# Altium footprint library Crystal Oscillator.PcbLib: 26 footprints (part 1 of 2)
Each footprint in its own frame and in the unit in brackets; x right, y up, seen from the top. Pads: shape width x height; smd on the part's side, far side on the other; paste and mask are expansions set on the pad; w line width, h text height; cw(c..) or ccw(c..) is an arc to the next point about the centre after c.
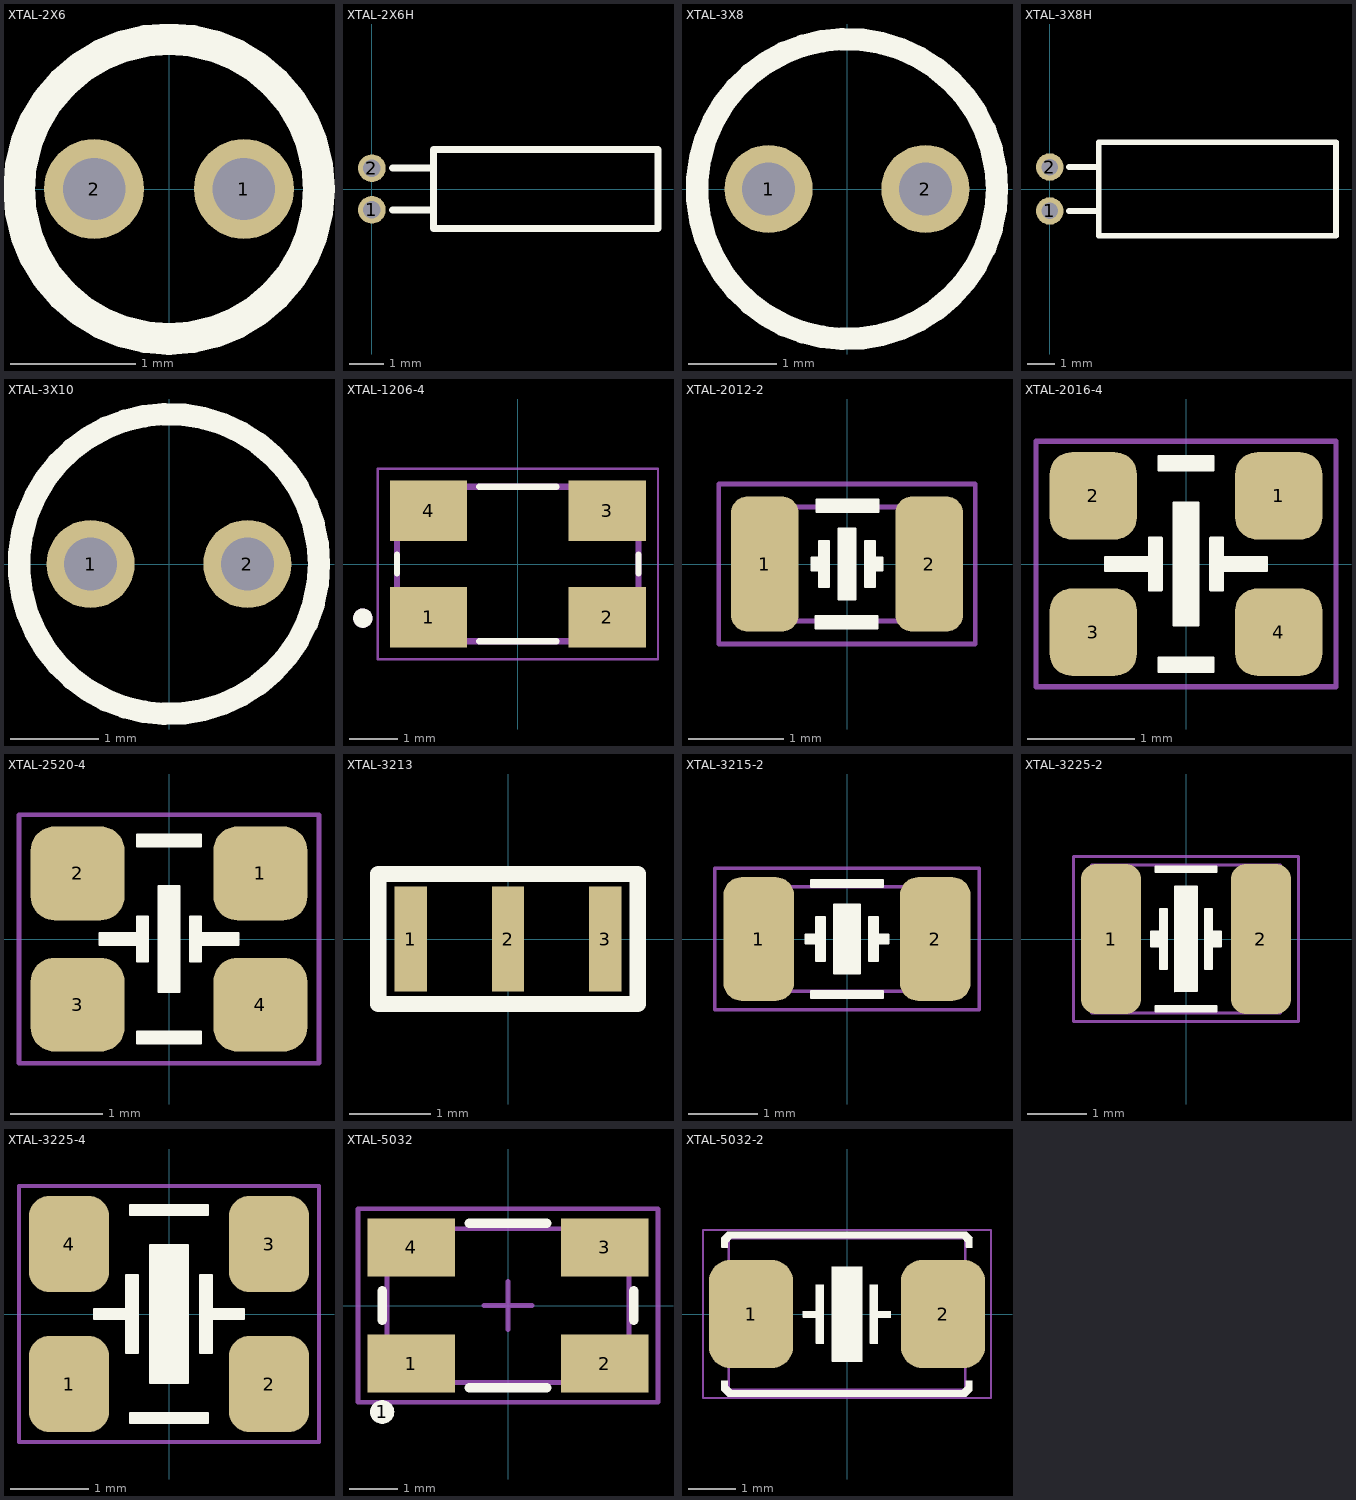
[diagram p0: the footprints below, top view; thin cyan lines are the x and y axes]

## XTAL-2X6 [mm]
pads (2):
  round 0.8 hole 0.5: 1(0.6,0) 2(-0.6,0)
Top Overlay:
  circle w0.254: c0,0 r1.2
3D body "2x6.STEP": height 6.4, standoff -4.9, extent -1.05,-1.05 1.05,1.05

## XTAL-2X6H [mm]
pads (2):
  round 0.8 hole 0.5: 1(0,-0.6) 2(0,0.6)
Top Overlay:
  lines w0.203: 0.6,-0.6 1.778,-0.6 ; 0.6,0.6 1.778,0.6 ; 1.778,-1.143 1.778,1.143 8.255,1.143 8.255,-1.143 1.778,-1.143
3D body "2x6H.STEP": height 1.9, standoff -2.15, extent -0.18,-1.075 8.18,1.025

## XTAL-3X8 [mm]
pads (2):
  round 1 hole 0.6: 1(-0.889,0) 2(0.889,0)
Top Overlay:
  circle w0.254: c0,0 r1.7
3D body "3x8.STEP": height 8.4, standoff -4.9, extent -1.5,-1.5 1.5,1.5

## XTAL-3X8H [mm]
pads (2):
  round 1 hole 0.6: 1(0,-0.8) 2(0,0.8)
Top Overlay:
  lines w0.203: 0.7,-0.8 1.778,-0.8 ; 0.7,0.8 1.778,0.8 ; 1.778,-1.7 1.778,1.7 10.414,1.7 10.414,-1.7 1.778,-1.7
3D body "3x6h.STEP": height 2.9, standoff -3.1, extent -0.18,-1.5 10.18,1.5

## XTAL-3X10 [mm]
pads (2):
  round 1 hole 0.6: 1(-0.889,0) 2(0.889,0)
Top Overlay:
  circle w0.254: c0,0 r1.7
3D body "3x10.STEP": height 10.2, standoff -4.9, extent -1.5,-1.5 1.5,1.5

## XTAL-1206-4 [mm]
pads (4):
  rect 1.6x1.25 smd: 1(-1.85,-1.1) 2(1.85,-1.1) 3(1.85,1.1) 4(-1.85,1.1)
Top Overlay:
  circle w0.2: c-3.21,-1.12 r0.1
  lines w0.127: -2.5,-0.2 -2.5,0.2 ; -0.8,-1.6 0.8,-1.6 ; -0.8,1.6 0.8,1.6 ; 2.5,-0.2 2.5,0.2
Mechanical 13:
  circle w0.2: c-3.21,-1.12 r0.1
  lines w0.127: -2.5,-1.6 2.5,-1.6 2.5,1.6 -2.5,1.6 -2.5,-1.6
Mechanical 15:
  lines w0.05: -2.9,-1.975 2.9,-1.975 2.9,1.975 -2.9,1.975 -2.9,-1.975
3D body "ECS-300-18-30BQ-DS-TR.STEP": height 0.85, standoff 0, extent -2.5,-1.6 2.5,1.6

## XTAL-2012-2 [mil]
height 25.59
pads (2):
  rrect50% 28x56 smd: 1(-34,0) 2(34,0)
Top Overlay:
  region: 12.5,-26.5 -13,-26.5 -13,-21.5 12.5,-21.5
  region: 11.5,-9.5 7.5,-9.5 7.5,9.5 11.5,9.5 11.5,2.5 14.5,2.5 14.5,-2.5 11.5,-2.5
  region: -3.5,14.5 3.5,14.5 3.5,-14.5 -3.5,-14.5
  region: -11.5,9.5 -7.5,9.5 -7.5,-9.5 -11.5,-9.5 -11.5,-2.5 -14.5,-2.5 -14.5,2.5 -11.5,2.5
  region: -12.5,26.5 13,26.5 13,21.5 -12.5,21.5
  lines w1: -14.5,-2.5 -14.5,2.5 -11.5,2.5 -11.5,9.5 -7.5,9.5 -7.5,-9.5 -11.5,-9.5 -11.5,-2.5 -14.5,-2.5 ; -13,-26.5 12.5,-26.5 12.5,-21.5 -13,-21.5 -13,-26.5 ; -12.5,21.5 13,21.5 13,26.5 -12.5,26.5 -12.5,21.5 ; -3.5,-14.5 3.5,-14.5 3.5,14.5 -3.5,14.5 -3.5,-14.5 ; 7.5,-9.5 7.5,9.5 11.5,9.5 11.5,2.5 14.5,2.5 14.5,-2.5 11.5,-2.5 11.5,-9.5 7.5,-9.5
Mechanical 13:
  lines w2: -39.37,-23.62 39.37,-23.62 39.37,23.62 -39.37,23.62 -39.37,-23.62
Mechanical 14:
  lines w2: -53,-33 53,-33 53,33 -53,33 -53,-33
  text ".Designator" at -35,-20 h80
3D body "User Library-NT2016SA-END4910A-48MHZ Crystal (NDK).STEP": height 27.56, standoff -0.04, extent -39.37,-31.5 39.37,31.5

## XTAL-2016-4 [mil]
height 29.53
pads (4):
  rrect50% 32x32 smd: 1(34,25) 2(-34,25) 3(-34,-25) 4(34,-25)
Top Overlay:
  region: -10,39.5 10,39.5 10,34.5 -10,34.5
  region: -29.5,2.5 -13.5,2.5 -13.5,9.5 -9,9.5 -9,-9.5 -13.5,-9.5 -13.5,-2.5 -29.5,-2.5
  region: -4.5,22.5 4.5,22.5 4.5,-22.5 -4.5,-22.5
  region: 9,9.5 13.5,9.5 13.5,2.5 29.5,2.5 29.5,-2.5 13.5,-2.5 13.5,-9.5 9,-9.5
  region: -10,-34.5 10,-34.5 10,-39.5 -10,-39.5
  lines w1: -29.5,-2.5 -13.5,-2.5 -13.5,-9.5 -9,-9.5 -9,9.5 -13.5,9.5 -13.5,2.5 -29.5,2.5 -29.5,-2.5 ; -10,-39.5 10,-39.5 10,-34.5 -10,-34.5 -10,-39.5 ; -10,34.5 -10,39.5 10,39.5 10,34.5 -10,34.5 ; -4.5,-22.5 4.5,-22.5 4.5,22.5 -4.5,22.5 -4.5,-22.5 ; 9,-9.5 9,9.5 13.5,9.5 13.5,2.5 29.5,2.5 29.5,-2.5 13.5,-2.5 13.5,-9.5 9,-9.5
Mechanical 14:
  lines w2: -55,-45 55,-45 55,45 -55,45 -55,-45
  text ".Designator" at -35,-20 h80
3D body "User Library-NT2016SA-END4910A-48MHZ Crystal (NDK).STEP": height 27.56, standoff -0.04, extent -39.37,-31.5 39.37,31.5

## XTAL-2520-4 [mil]
height 29.53
pads (4):
  rrect50% 40x40 smd: 1(39,28) 2(-39,28) 3(-39,-28) 4(39,-28)
Top Overlay:
  region: 9,9.5 13.5,9.5 13.5,2.5 29.5,2.5 29.5,-2.5 13.5,-2.5 13.5,-9.5 9,-9.5
  region: -4.5,22.5 4.5,22.5 4.5,-22.5 -4.5,-22.5
  region: -29.5,2.5 -13.5,2.5 -13.5,9.5 -9,9.5 -9,-9.5 -13.5,-9.5 -13.5,-2.5 -29.5,-2.5
  region: -13.5,-39.5 13.5,-39.5 13.5,-44.5 -13.5,-44.5
  region: -13.5,44.5 13.5,44.5 13.5,39.5 -13.5,39.5
  lines w1: -29.5,-2.5 -29.5,2.5 -13.5,2.5 -13.5,9.5 -9,9.5 -9,-9.5 -13.5,-9.5 -13.5,-2.5 -29.5,-2.5 ; -13.5,-44.5 -13.5,-39.5 13.5,-39.5 13.5,-44.5 -13.5,-44.5 ; -13.5,39.5 13.5,39.5 13.5,44.5 -13.5,44.5 -13.5,39.5 ; -4.5,-22.5 -4.5,22.5 4.5,22.5 4.5,-22.5 -4.5,-22.5 ; 9,-9.5 13.5,-9.5 13.5,-2.5 29.5,-2.5 29.5,2.5 13.5,2.5 13.5,9.5 9,9.5 9,-9.5
Mechanical 14:
  lines w2: -64,-53 -64,53 64,53 64,-53 -64,-53
  text ".Designator" at -35,-20 h80
3D body "User Library-Osc KC2520.STEP": height 31.1, standoff 0, extent -49.21,-39.36 49.22,39.37

## XTAL-3213 [mm]
pads (3):
  rect 0.4x1.3 smd: 1(-1.2,0) 2(0,0) 3(1.2,0)
Top Overlay:
  lines w0.2: -1.6,-0.8 1.6,-0.8 1.6,0.8 0,0.8 -1.6,0.8 -1.6,-0.8
3D body "CSTCE16M.STEP": height 1.02, standoff -0.09, extent -1.6,-0.66 1.6,0.64

## XTAL-3215-2 [mil]
height 25.59
pads (2):
  rrect50% 40x70 smd: 1(-50,0) 2(50,0)
Top Overlay:
  region: -20.5,33.5 20.5,33.5 20.5,29.5 -20.5,29.5
  region: -7.5,19.5 7.5,19.5 7.5,-19.5 -7.5,-19.5
  region: -12.5,-12.5 -17.5,-12.5 -17.5,-2.5 -23.5,-2.5 -23.5,2.5 -17.5,2.5 -17.5,12.5 -12.5,12.5
  region: 12.5,12.5 17.5,12.5 17.5,2.5 23.5,2.5 23.5,-2.5 17.5,-2.5 17.5,-12.5 12.5,-12.5
  region: 20.5,-33.5 -20.5,-33.5 -20.5,-29.5 20.5,-29.5
  lines w1: -23.5,-2.5 -17.5,-2.5 -17.5,-12.5 -12.5,-12.5 -12.5,12.5 -17.5,12.5 -17.5,2.5 -23.5,2.5 -23.5,-2.5 ; -20.5,-33.5 -20.5,-29.5 20.5,-29.5 20.5,-33.5 -20.5,-33.5 ; -20.5,29.5 20.5,29.5 20.5,33.5 -20.5,33.5 -20.5,29.5 ; -7.5,-19.5 7.5,-19.5 7.5,19.5 -7.5,19.5 -7.5,-19.5 ; 12.5,-12.5 12.5,12.5 17.5,12.5 17.5,2.5 23.5,2.5 23.5,-2.5 17.5,-2.5 17.5,-12.5 12.5,-12.5
Mechanical 13:
  lines w2: -63,-29.51 -63,29.53 62.99,29.53 62.99,-29.51 -63,-29.51
Mechanical 14:
  lines w2: -75,-40 -75,40 75,40 75,-40 -75,-40
  text ".Designator" at -35,-20 h80
3D body "User Library-ECX-31B.STEP": height 35.43, standoff 0, extent -63,-29.51 62.99,29.55

## XTAL-3225-2 [mil]
height 25.59
pads (2):
  rrect50% 40x100 smd: 1(-50,0) 2(50,0)
Top Overlay:
  region: 20.5,-48.5 -20.5,-48.5 -20.5,-44.5 20.5,-44.5
  region: 12.5,20 17.5,20 17.5,5 23.5,5 23.5,-5 17.5,-5 17.5,-20 12.5,-20
  region: -12.5,-20 -17.5,-20 -17.5,-5 -23.5,-5 -23.5,5 -17.5,5 -17.5,20 -12.5,20
  region: -7.5,35 7.5,35 7.5,-35 -7.5,-35
  region: -20.5,48.5 20.5,48.5 20.5,44.5 -20.5,44.5
  lines w1: -23.5,-5 -17.5,-5 -17.5,-20 -12.5,-20 -12.5,20 -17.5,20 -17.5,5 -23.5,5 -23.5,-5 ; -20.5,-48.5 20.5,-48.5 20.5,-44.5 -20.5,-44.5 -20.5,-48.5 ; -20.5,44.5 -20.5,48.5 20.5,48.5 20.5,44.5 -20.5,44.5 ; -7.5,-35 -7.5,35 7.5,35 7.5,-35 -7.5,-35 ; 12.5,-20 17.5,-20 17.5,-5 23.5,-5 23.5,5 17.5,5 17.5,20 12.5,20 12.5,-20
Mechanical 13:
  lines w2: -63,-49.21 -63,49.21 62.99,49.21 62.99,-49.21 -63,-49.21
Mechanical 14:
  lines w2: -75,-55 -75,55 75,55 75,-55 -75,-55
  text ".Designator" at -35,-20 h80
3D body "User Library-SG310.STEP": height 41.34, standoff 0, extent -62.98,-49.21 63,49.21

## XTAL-3225-4 [mil]
height 47.24
pads (4):
  rrect50% 40x48 smd: 1(-50,-35) 2(50,-35) 3(50,35) 4(-50,35)
Top Overlay:
  region: -19.5,54.5 19.5,54.5 19.5,49.5 -19.5,49.5
  region: -9.5,34.5 9.5,34.5 9.5,-34.5 -9.5,-34.5
  region: -21.5,19.5 -15.5,19.5 -15.5,-19.5 -21.5,-19.5 -21.5,-2.5 -37.5,-2.5 -37.5,2.5 -21.5,2.5
  region: 21.5,-19.5 15.5,-19.5 15.5,19.5 21.5,19.5 21.5,2.5 37.5,2.5 37.5,-2.5 21.5,-2.5
  region: 19.5,-54.5 -19.5,-54.5 -19.5,-49.5 19.5,-49.5
  lines w1: -37.5,-2.5 -21.5,-2.5 -21.5,-19.5 -15.5,-19.5 -15.5,19.5 -21.5,19.5 -21.5,2.5 -37.5,2.5 -37.5,-2.5 ; -19.5,-54.5 19.5,-54.5 19.5,-49.5 -19.5,-49.5 -19.5,-54.5 ; -19.5,49.5 19.5,49.5 19.5,54.5 -19.5,54.5 -19.5,49.5 ; -9.5,-34.5 -9.5,34.5 9.5,34.5 9.5,-34.5 -9.5,-34.5 ; 15.5,-19.5 21.5,-19.5 21.5,-2.5 37.5,-2.5 37.5,2.5 21.5,2.5 21.5,19.5 15.5,19.5 15.5,-19.5
Mechanical 14:
  lines w2: -75,-64 75,-64 75,64 -75,64 -75,-64
  text ".Designator" at -35,-20 h80
3D body "User Library-SG310.STEP": height 41.34, standoff 0, extent -62.98,-49.21 63,49.21

## XTAL-5032 [mm]
pads (6):
  round 0.5 on Top Overlay: 1(-2.6,-2.2)
  rect 1.8x1.2 smd: 1(-2,-1.2) 2(2,-1.2) 3(2,1.2) 4(-2,1.2)
  round 0.5 on Mech1: ""(-2,-1.1)
Top Overlay:
  lines w0.2: -2.6,-0.3 -2.6,0.3 ; -0.8,-1.7 0.8,-1.7 ; -0.8,1.7 0.8,1.7 ; 2.6,-0.3 2.6,0.3
Mechanical 1:
  lines w0.1: -2.5,-1.587 -2.5,1.587 2.5,1.587 2.5,-1.587 -2.5,-1.587
Mechanical 15:
  lines w0.1: -0.5,0 0.5,0 ; 0,-0.5 0,0.5 ; -3.1,-2 -3.1,2 3.1,2 3.1,-2 -3.1,-2
3D body "ABM3B.STEP": height 1.1, standoff -0.01, extent -2.5,-1.587 2.5,1.587

## XTAL-5032-2 [mil]
height 47.24
pads (2):
  rrect50% 70x90 smd: 1(-80,0) 2(80,0)
Top Overlay:
  region: 104.5,-55.5 99.5,-55.5 99.5,-60 96,-63.5 -96,-63.5 -99.5,-60 -99.5,-55.5 -104.5,-55.5 -104.5,-63.5 -99.5,-68.5 99.5,-68.5 104.5,-63.5
  region: -104.5,55.5 -99.5,55.5 -99.5,60 -96,63.5 96,63.5 99.5,60 99.5,55.5 104.5,55.5 104.5,63.5 99.5,68.5 -99.5,68.5 -104.5,63.5
  region: -19.5,24.5 -25.5,24.5 -25.5,2.5 -36.5,2.5 -36.5,-2.5 -25.5,-2.5 -25.5,-24.5 -19.5,-24.5
  region: -12.5,39.5 12.5,39.5 12.5,-39.5 -12.5,-39.5
  region: 19.5,-24.5 25.5,-24.5 25.5,-2.5 36.5,-2.5 36.5,2.5 25.5,2.5 25.5,24.5 19.5,24.5
  lines w1: -104.5,-63.5 -99.5,-68.5 99.5,-68.5 104.5,-63.5 104.5,-55.5 99.5,-55.5 99.5,-60 96,-63.5 -96,-63.5 -99.5,-60 -99.5,-55.5 -104.5,-55.5 -104.5,-63.5 ; -104.5,55.5 -99.5,55.5 -99.5,60 -96,63.5 96,63.5 99.5,60 99.5,55.5 104.5,55.5 104.5,63.5 99.5,68.5 -99.5,68.5 -104.5,63.5 -104.5,55.5 ; -36.5,-2.5 -25.5,-2.5 -25.5,-24.5 -19.5,-24.5 -19.5,24.5 -25.5,24.5 -25.5,2.5 -36.5,2.5 -36.5,-2.5 ; -12.5,-39.5 12.5,-39.5 12.5,39.5 -12.5,39.5 -12.5,-39.5 ; 19.5,-24.5 19.5,24.5 25.5,24.5 25.5,2.5 36.5,2.5 36.5,-2.5 25.5,-2.5 25.5,-24.5 19.5,-24.5
Mechanical 13:
  lines w2: -98.43,-63 -98.43,62.99 98.43,62.99 98.43,-63 98.42,-63 -98.43,-63
Mechanical 14:
  lines w2: -120,-70 120,-70 120,70 -120,70 -120,-70
  text ".Designator" at -35,-20 h80
3D body "User Library-CRYSTALSMD5X32.STEP": height 39.37, standoff 0, extent -98.42,-63 98.43,62.99

## XTAL-5032-4 [mm]
height 1.2
3D body "User Library-CRYSTALSMD5X32.STEP": height 1, standoff 0, extent -2.5,-1.6 2.5,1.6